# Altium schematic symbol library WE-DD.SchLib: 73 symbols (part 2 of 2)
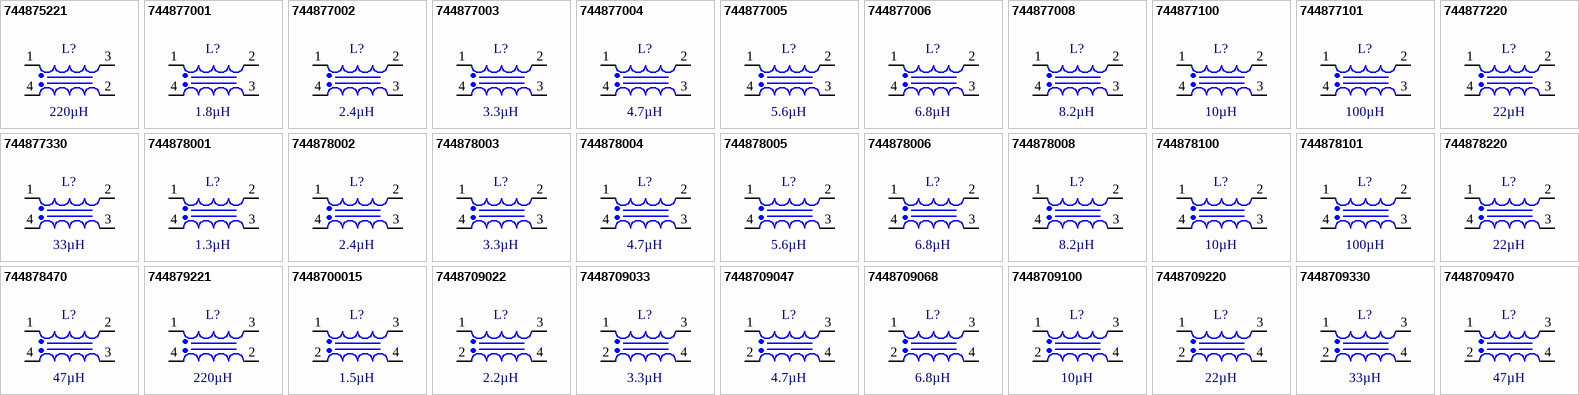
[diagram p2: symbols 744875221 to 7448709470]

## 744877100
designator L?, comment 10µH
WE-DD SMT Shielded Coupled Inductor, size 7345, 1:1, 10µH, 1.1A, 120mΩ; Manufacturer Part Number: 744877100; Manufacturer: Wurth Elektronik; Case/Size Code: 7345; DC Resistance 1: 110mΩ; Rated Voltage: 80V; Saturation Current: 2.8A; Self Resonant Frequency: 27MHz; Type: Straight; Category: Power Inductors; Match Code: WE-DD; ComponentLink1Description: Website Link; ComponentLink1URL: https://www.we-online.com/redexpert/article/744877100?ad; ComponentLink2Description: Datasheet Link; ComponentLink2URL: https://www.we-online.com/redexpert/spec/744877100?ad; Mount: Surface Mount; Min Operating Temperature: -40°C; Max Operating Temperature: 125°C; Packaging: Tape and Reel; Length: 7.3mm; Width: 7.3mm; Height: 4.8mm; DC Resistance 2: 110mΩ; DC Resistance Max 1: 120mΩ; DC Resistance Max 2: 120mΩ; Inductance 1: 10µH; Inductance 2: 10µH; Rated Current 1: 1.1A; Rated Current 2: 1.1A; Turns Ratio: 1:1
footprint WE-DD_7345
simulation model 7345_744877100_10u
pins: 1, 2, 3, 4

## 744877101
designator L?, comment 100µH
WE-DD SMT Shielded Coupled Inductor, size 7345, 1:1, 100µH, 0.65A, 1300mΩ; Manufacturer Part Number: 744877101; Manufacturer: Wurth Elektronik; Case/Size Code: 7345; DC Resistance 1: 1029mΩ; Rated Voltage: 80V; Saturation Current: 0.9A; Self Resonant Frequency: 4MHz; Type: Straight; Category: Power Inductors; Match Code: WE-DD; ComponentLink1Description: Website Link; ComponentLink1URL: https://www.we-online.com/redexpert/article/744877101?ad; ComponentLink2Description: Datasheet Link; ComponentLink2URL: https://www.we-online.com/redexpert/spec/744877101?ad; Mount: Surface Mount; Min Operating Temperature: -40°C; Max Operating Temperature: 125°C; Packaging: Tape and Reel; Length: 7.3mm; Width: 7.3mm; Height: 4.8mm; DC Resistance 2: 1029mΩ; DC Resistance Max 1: 1300mΩ; DC Resistance Max 2: 1300mΩ; Inductance 1: 100µH; Inductance 2: 100µH; Rated Current 1: 0.65A; Rated Current 2: 0.65A; Turns Ratio: 1:1
footprint WE-DD_7345
simulation model 7345_744877101_100u
pins: 1, 2, 3, 4

## 744877220
designator L?, comment 22µH
WE-DD SMT Shielded Coupled Inductor, size 7345, 1:1, 22µH, 0.8A, 260mΩ; Manufacturer Part Number: 744877220; Manufacturer: Wurth Elektronik; Case/Size Code: 7345; DC Resistance 1: 215mΩ; Rated Voltage: 80V; Saturation Current: 1.8A; Self Resonant Frequency: 16MHz; Type: Straight; Category: Power Inductors; Match Code: WE-DD; ComponentLink1Description: Website Link; ComponentLink1URL: https://www.we-online.com/redexpert/article/744877220?ad; ComponentLink2Description: Datasheet Link; ComponentLink2URL: https://www.we-online.com/redexpert/spec/744877220?ad; Mount: Surface Mount; Min Operating Temperature: -40°C; Max Operating Temperature: 125°C; Packaging: Tape and Reel; Length: 7.3mm; Width: 7.3mm; Height: 4.8mm; DC Resistance 2: 215mΩ; DC Resistance Max 1: 260mΩ; DC Resistance Max 2: 260mΩ; Inductance 1: 22µH; Inductance 2: 22µH; Rated Current 1: 0.8A; Rated Current 2: 0.8A; Turns Ratio: 1:1
footprint WE-DD_7345
simulation model 7345_744877220_22u
pins: 1, 2, 3, 4

## 744877330
designator L?, comment 33µH
WE-DD SMT Shielded Coupled Inductor, size 7345, 1:1, 33µH, 0.7A, 500mΩ; Manufacturer Part Number: 744877330; Manufacturer: Wurth Elektronik; Case/Size Code: 7345; DC Resistance 1: 400mΩ; Rated Voltage: 80V; Saturation Current: 1.5A; Self Resonant Frequency: 8MHz; Type: Straight; Category: Power Inductors; Match Code: WE-DD; ComponentLink1Description: Website Link; ComponentLink1URL: https://www.we-online.com/redexpert/article/744877330?ad; ComponentLink2Description: Datasheet Link; ComponentLink2URL: https://www.we-online.com/redexpert/spec/744877330?ad; Mount: Surface Mount; Min Operating Temperature: -40°C; Max Operating Temperature: 125°C; Packaging: Tape and Reel; Length: 7.3mm; Width: 7.3mm; Height: 4.8mm; DC Resistance 2: 400mΩ; DC Resistance Max 1: 500mΩ; DC Resistance Max 2: 500mΩ; Inductance 1: 33µH; Inductance 2: 33µH; Rated Current 1: 0.7A; Rated Current 2: 0.7A; Turns Ratio: 1:1
footprint WE-DD_7345
simulation model 7345_744877330_33u
pins: 1, 2, 3, 4

## 744878001
designator L?, comment 1.3µH
WE-DD SMT Shielded Coupled Inductor, size 7332, 1:1, 1.3µH, 4.4A, 35mΩ; Manufacturer Part Number: 744878001; Manufacturer: Wurth Elektronik; Case/Size Code: 7332; DC Resistance 1: 27mΩ; Rated Voltage: 80V; Saturation Current: 6.3A; Self Resonant Frequency: 60MHz; Type: Straight; Category: Power Inductors; Match Code: WE-DD; ComponentLink1Description: Website Link; ComponentLink1URL: https://www.we-online.com/redexpert/article/744878001?ad; ComponentLink2Description: Datasheet Link; ComponentLink2URL: https://www.we-online.com/redexpert/spec/744878001?ad; Mount: Surface Mount; Min Operating Temperature: -40°C; Max Operating Temperature: 125°C; Packaging: Tape and Reel; Length: 7.3mm; Width: 7.3mm; Height: 4mm; DC Resistance 2: 27mΩ; DC Resistance Max 1: 35mΩ; DC Resistance Max 2: 35mΩ; Inductance 1: 1.3µH; Inductance 2: 1.3µH; Rated Current 1: 4.4A; Rated Current 2: 4.4A; Turns Ratio: 1:1
footprint WE-DD_7332
simulation model 7332_744878001_1.3u
pins: 1, 2, 3, 4

## 744878002
designator L?, comment 2.4µH
WE-DD SMT Shielded Coupled Inductor, size 7332, 1:1, 2.4µH, 3.6A, 52mΩ; Manufacturer Part Number: 744878002; Manufacturer: Wurth Elektronik; Case/Size Code: 7332; DC Resistance 1: 42mΩ; Rated Voltage: 80V; Saturation Current: 4.8A; Self Resonant Frequency: 53MHz; Type: Straight; Category: Power Inductors; Match Code: WE-DD; ComponentLink1Description: Website Link; ComponentLink1URL: https://www.we-online.com/redexpert/article/744878002?ad; ComponentLink2Description: Datasheet Link; ComponentLink2URL: https://www.we-online.com/redexpert/spec/744878002?ad; Mount: Surface Mount; Min Operating Temperature: -40°C; Max Operating Temperature: 125°C; Packaging: Tape and Reel; Length: 7.3mm; Width: 7.3mm; Height: 4mm; DC Resistance 2: 42mΩ; DC Resistance Max 1: 52mΩ; DC Resistance Max 2: 52mΩ; Inductance 1: 2.4µH; Inductance 2: 2.4µH; Rated Current 1: 3.6A; Rated Current 2: 3.6A; Turns Ratio: 1:1
footprint WE-DD_7332
simulation model 7332_744878002_2.4u
pins: 1, 2, 3, 4

## 744878003
designator L?, comment 3.3µH
WE-DD SMT Shielded Coupled Inductor, size 7332, 1:1, 3.3µH, 3.3A, 64mΩ; Manufacturer Part Number: 744878003; Manufacturer: Wurth Elektronik; Case/Size Code: 7332; DC Resistance 1: 52mΩ; Rated Voltage: 80V; Saturation Current: 4A; Self Resonant Frequency: 49MHz; Type: Straight; Category: Power Inductors; Match Code: WE-DD; ComponentLink1Description: Website Link; ComponentLink1URL: https://www.we-online.com/redexpert/article/744878003?ad; ComponentLink2Description: Datasheet Link; ComponentLink2URL: https://www.we-online.com/redexpert/spec/744878003?ad; Mount: Surface Mount; Min Operating Temperature: -40°C; Max Operating Temperature: 125°C; Packaging: Tape and Reel; Length: 7.3mm; Width: 7.3mm; Height: 4mm; DC Resistance 2: 52mΩ; DC Resistance Max 1: 64mΩ; DC Resistance Max 2: 64mΩ; Inductance 1: 3.3µH; Inductance 2: 3.3µH; Rated Current 1: 3.3A; Rated Current 2: 3.3A; Turns Ratio: 1:1
footprint WE-DD_7332
simulation model 7332_744878003_3.3u
pins: 1, 2, 3, 4

## 744878004
designator L?, comment 4.7µH
WE-DD SMT Shielded Coupled Inductor, size 7332, 1:1, 4.7µH, 1.3A, 75mΩ; Manufacturer Part Number: 744878004; Manufacturer: Wurth Elektronik; Case/Size Code: 7332; DC Resistance 1: 65mΩ; Rated Voltage: 80V; Saturation Current: 3A; Self Resonant Frequency: 46MHz; Type: Straight; Category: Power Inductors; Match Code: WE-DD; ComponentLink1Description: Website Link; ComponentLink1URL: https://www.we-online.com/redexpert/article/744878004?ad; ComponentLink2Description: Datasheet Link; ComponentLink2URL: https://www.we-online.com/redexpert/spec/744878004?ad; Mount: Surface Mount; Min Operating Temperature: -40°C; Max Operating Temperature: 125°C; Packaging: Tape and Reel; Length: 7.3mm; Width: 7.3mm; Height: 4mm; DC Resistance 2: 65mΩ; DC Resistance Max 1: 75mΩ; DC Resistance Max 2: 75mΩ; Inductance 1: 4.7µH; Inductance 2: 4.7µH; Rated Current 1: 1.3A; Rated Current 2: 1.3A; Turns Ratio: 1:1
footprint WE-DD_7332
simulation model 7332_744878004_4.7u
pins: 1, 2, 3, 4

## 744878005
designator L?, comment 5.6µH
WE-DD SMT Shielded Coupled Inductor, size 7332, 1:1, 5.6µH, 1.5A, 120mΩ; Manufacturer Part Number: 744878005; Manufacturer: Wurth Elektronik; Case/Size Code: 7332; DC Resistance 1: 95mΩ; Rated Voltage: 80V; Saturation Current: 3A; Self Resonant Frequency: 26MHz; Type: Straight; Category: Power Inductors; Match Code: WE-DD; ComponentLink1Description: Website Link; ComponentLink1URL: https://www.we-online.com/redexpert/article/744878005?ad; ComponentLink2Description: Datasheet Link; ComponentLink2URL: https://www.we-online.com/redexpert/spec/744878005?ad; Mount: Surface Mount; Min Operating Temperature: -40°C; Max Operating Temperature: 125°C; Packaging: Tape and Reel; Length: 7.3mm; Width: 7.3mm; Height: 4mm; DC Resistance 2: 95mΩ; DC Resistance Max 1: 120mΩ; DC Resistance Max 2: 120mΩ; Inductance 1: 5.6µH; Inductance 2: 5.6µH; Rated Current 1: 1.5A; Rated Current 2: 1.5A; Turns Ratio: 1:1
footprint WE-DD_7332
simulation model 7332_744878005_5.6u
pins: 1, 2, 3, 4

## 744878006
designator L?, comment 6.8µH
WE-DD SMT Shielded Coupled Inductor, size 7332, 1:1, 6.8µH, 1.4A, 135mΩ; Manufacturer Part Number: 744878006; Manufacturer: Wurth Elektronik; Case/Size Code: 7332; DC Resistance 1: 110mΩ; Rated Voltage: 80V; Saturation Current: 2.8A; Self Resonant Frequency: 25MHz; Type: Straight; Category: Power Inductors; Match Code: WE-DD; ComponentLink1Description: Website Link; ComponentLink1URL: https://www.we-online.com/redexpert/article/744878006?ad; ComponentLink2Description: Datasheet Link; ComponentLink2URL: https://www.we-online.com/redexpert/spec/744878006?ad; Mount: Surface Mount; Min Operating Temperature: -40°C; Max Operating Temperature: 125°C; Packaging: Tape and Reel; Length: 7.3mm; Width: 7.3mm; Height: 4mm; DC Resistance 2: 110mΩ; DC Resistance Max 1: 135mΩ; DC Resistance Max 2: 135mΩ; Inductance 1: 6.8µH; Inductance 2: 6.8µH; Rated Current 1: 1.4A; Rated Current 2: 1.4A; Turns Ratio: 1:1
footprint WE-DD_7332
simulation model 7332_744878006_6.8u
pins: 1, 2, 3, 4

## 744878008
designator L?, comment 8.2µH
WE-DD SMT Shielded Coupled Inductor, size 7332, 1:1, 8.2µH, 1.3A, 140mΩ; Manufacturer Part Number: 744878008; Manufacturer: Wurth Elektronik; Case/Size Code: 7332; DC Resistance 1: 115mΩ; Rated Voltage: 80V; Saturation Current: 2.7A; Self Resonant Frequency: 22MHz; Type: Straight; Category: Power Inductors; Match Code: WE-DD; ComponentLink1Description: Website Link; ComponentLink1URL: https://www.we-online.com/redexpert/article/744878008?ad; ComponentLink2Description: Datasheet Link; ComponentLink2URL: https://www.we-online.com/redexpert/spec/744878008?ad; Mount: Surface Mount; Min Operating Temperature: -40°C; Max Operating Temperature: 125°C; Packaging: Tape and Reel; Length: 7.3mm; Width: 7.3mm; Height: 4mm; DC Resistance 2: 115mΩ; DC Resistance Max 1: 140mΩ; DC Resistance Max 2: 140mΩ; Inductance 1: 8.2µH; Inductance 2: 8.2µH; Rated Current 1: 1.3A; Rated Current 2: 1.3A; Turns Ratio: 1:1
footprint WE-DD_7332
simulation model 7332_744878008_8.2u
pins: 1, 2, 3, 4

## 744878100
designator L?, comment 10µH
WE-DD SMT Shielded Coupled Inductor, size 7332, 1:1, 10µH, 1A, 150mΩ; Manufacturer Part Number: 744878100; Manufacturer: Wurth Elektronik; Case/Size Code: 7332; DC Resistance 1: 125mΩ; Rated Voltage: 80V; Saturation Current: 2A; Self Resonant Frequency: 30MHz; Type: Straight; Category: Power Inductors; Match Code: WE-DD; ComponentLink1Description: Website Link; ComponentLink1URL: https://www.we-online.com/redexpert/article/744878100?ad; ComponentLink2Description: Datasheet Link; ComponentLink2URL: https://www.we-online.com/redexpert/spec/744878100?ad; Mount: Surface Mount; Min Operating Temperature: -40°C; Max Operating Temperature: 125°C; Packaging: Tape and Reel; Length: 7.3mm; Width: 7.3mm; Height: 4mm; DC Resistance 2: 125mΩ; DC Resistance Max 1: 150mΩ; DC Resistance Max 2: 150mΩ; Inductance 1: 10µH; Inductance 2: 10µH; Rated Current 1: 1A; Rated Current 2: 1A; Turns Ratio: 1:1
footprint WE-DD_7332
simulation model 7332_744878100_10u
pins: 1, 2, 3, 4

## 744878101
designator L?, comment 100µH
WE-DD SMT Shielded Coupled Inductor, size 7332, 1:1, 100µH, 0.3A, 1730mΩ; Manufacturer Part Number: 744878101; Manufacturer: Wurth Elektronik; Case/Size Code: 7332; DC Resistance 1: 1400mΩ; Rated Voltage: 80V; Saturation Current: 0.7A; Self Resonant Frequency: 4MHz; Type: Straight; Category: Power Inductors; Match Code: WE-DD; ComponentLink1Description: Website Link; ComponentLink1URL: https://www.we-online.com/redexpert/article/744878101?ad; ComponentLink2Description: Datasheet Link; ComponentLink2URL: https://www.we-online.com/redexpert/spec/744878101?ad; Mount: Surface Mount; Min Operating Temperature: -40°C; Max Operating Temperature: 125°C; Packaging: Tape and Reel; Length: 7.3mm; Width: 7.3mm; Height: 4mm; DC Resistance 2: 1400mΩ; DC Resistance Max 1: 1730mΩ; DC Resistance Max 2: 1730mΩ; Inductance 1: 100µH; Inductance 2: 100µH; Rated Current 1: 0.3A; Rated Current 2: 0.3A; Turns Ratio: 1:1
footprint WE-DD_7332
simulation model 7332_744878101_100u
pins: 1, 2, 3, 4

## 744878220
designator L?, comment 22µH
WE-DD SMT Shielded Coupled Inductor, size 7332, 1:1, 22µH, 0.7A, 300mΩ; Manufacturer Part Number: 744878220; Manufacturer: Wurth Elektronik; Case/Size Code: 7332; DC Resistance 1: 245mΩ; Rated Voltage: 80V; Saturation Current: 1.5A; Self Resonant Frequency: 20MHz; Type: Straight; Category: Power Inductors; Match Code: WE-DD; ComponentLink1Description: Website Link; ComponentLink1URL: https://www.we-online.com/redexpert/article/744878220?ad; ComponentLink2Description: Datasheet Link; ComponentLink2URL: https://www.we-online.com/redexpert/spec/744878220?ad; Mount: Surface Mount; Min Operating Temperature: -40°C; Max Operating Temperature: 125°C; Packaging: Tape and Reel; Length: 7.3mm; Width: 7.3mm; Height: 4mm; DC Resistance 2: 245mΩ; DC Resistance Max 1: 300mΩ; DC Resistance Max 2: 300mΩ; Inductance 1: 22µH; Inductance 2: 22µH; Rated Current 1: 0.7A; Rated Current 2: 0.7A; Turns Ratio: 1:1
footprint WE-DD_7332
simulation model 7332_744878220_22u
pins: 1, 2, 3, 4

## 744878470
designator L?, comment 47µH
WE-DD SMT Shielded Coupled Inductor, size 7332, 1:1, 47µH, 0.9A, 750mΩ; Manufacturer Part Number: 744878470; Manufacturer: Wurth Elektronik; Case/Size Code: 7332; DC Resistance 1: 600mΩ; Rated Voltage: 80V; Saturation Current: 1A; Self Resonant Frequency: 8MHz; Type: Straight; Category: Power Inductors; Match Code: WE-DD; ComponentLink1Description: Website Link; ComponentLink1URL: https://www.we-online.com/redexpert/article/744878470?ad; ComponentLink2Description: Datasheet Link; ComponentLink2URL: https://www.we-online.com/redexpert/spec/744878470?ad; Mount: Surface Mount; Min Operating Temperature: -40°C; Max Operating Temperature: 125°C; Packaging: Tape and Reel; Length: 7.3mm; Width: 7.3mm; Height: 4mm; DC Resistance 2: 600mΩ; DC Resistance Max 1: 750mΩ; DC Resistance Max 2: 750mΩ; Inductance 1: 47µH; Inductance 2: 47µH; Rated Current 1: 0.9A; Rated Current 2: 0.9A; Turns Ratio: 1:1
footprint WE-DD_7332
simulation model 7332_744878470_47u
pins: 1, 2, 3, 4

## 744879221
designator L?, comment 220µH
WE-DD SMT Shielded Coupled Inductor, size 7355, 1:1, 220µH, 0.44A, 2300mΩ; Manufacturer Part Number: 744879221; Manufacturer: Wurth Elektronik; Case/Size Code: 7355; DC Resistance 1: 1940mΩ; Rated Voltage: 80V; Saturation Current: 0.7A; Self Resonant Frequency: 3.2MHz; Type: Crossed; Category: Power Inductors; Match Code: WE-DD; ComponentLink1Description: Website Link; ComponentLink1URL: https://www.we-online.com/redexpert/article/744879221?ad; ComponentLink2Description: Datasheet Link; ComponentLink2URL: https://www.we-online.com/redexpert/spec/744879221?ad; Mount: Surface Mount; Min Operating Temperature: -40°C; Max Operating Temperature: 125°C; Packaging: Tape and Reel; Length: 7.3mm; Width: 7.3mm; Height: 5.8mm; DC Resistance 2: 1940mΩ; DC Resistance Max 1: 2300mΩ; DC Resistance Max 2: 2300mΩ; Inductance 1: 220µH; Inductance 2: 220µH; Rated Current 1: 0.44A; Rated Current 2: 0.44A; Turns Ratio: 1:1
footprint WE-DD_7355
pins: 1, 2, 3, 4

## 7448700015
designator L?, comment 1.5µH
WE-DD SMT Shielded Coupled Inductor, size 1280, 1:1, 1.5µH, 8.6A, 16mΩ; Manufacturer Part Number: 7448700015; Manufacturer: Wurth Elektronik; Case/Size Code: 1280; DC Resistance 1: 12mΩ; Rated Voltage: 80V; Saturation Current: 17.5A; Self Resonant Frequency: 60MHz; Type: Crossed; Category: Power Inductors; Match Code: WE-DD; ComponentLink1Description: Website Link; ComponentLink1URL: https://www.we-online.com/redexpert/article/7448700015?ad; ComponentLink2Description: Datasheet Link; ComponentLink2URL: https://www.we-online.com/redexpert/spec/7448700015?ad; Mount: Surface Mount; Min Operating Temperature: -40°C; Max Operating Temperature: 125°C; Packaging: Tape and Reel; Length: 12.5mm; Width: 12.5mm; Height: 8.5mm; DC Resistance 2: 12mΩ; DC Resistance Max 1: 16mΩ; DC Resistance Max 2: 16mΩ; Inductance 1: 1.5µH; Inductance 2: 1.5µH; Rated Current 1: 8.6A; Rated Current 2: 8.6A; Turns Ratio: 1:1
footprint WE-DD_1280
simulation model 1280_7448700015_1.5u
pins: 1, 2, 3, 4

## 7448709022
designator L?, comment 2.2µH
WE-DD SMT Shielded Coupled Inductor, size 1210, 1:1, 2.2µH, 4.1A, 17mΩ; Manufacturer Part Number: 7448709022; Manufacturer: Wurth Elektronik; Case/Size Code: 1210; DC Resistance 1: 15mΩ; Rated Voltage: 80V; Saturation Current: 19A; Self Resonant Frequency: 45MHz; Type: Crossed; Category: Power Inductors; Match Code: WE-DD; ComponentLink1Description: Website Link; ComponentLink1URL: https://www.we-online.com/redexpert/article/7448709022?ad; ComponentLink2Description: Datasheet Link; ComponentLink2URL: https://www.we-online.com/redexpert/spec/7448709022?ad; Mount: Surface Mount; Min Operating Temperature: -40°C; Max Operating Temperature: 125°C; Packaging: Tape and Reel; Length: 12.5mm; Width: 12.5mm; Height: 10.5mm; DC Resistance 2: 15mΩ; DC Resistance Max 1: 17mΩ; DC Resistance Max 2: 17mΩ; Inductance 1: 2.2µH; Inductance 2: 2.2µH; Rated Current 1: 4.1A; Rated Current 2: 4.1A; Turns Ratio: 1:1
footprint WE-DD_1210
simulation model 1210_7448709022_2.2u
pins: 1, 2, 3, 4

## 7448709033
designator L?, comment 3.3µH
WE-DD SMT Shielded Coupled Inductor, size 1210, 1:1, 3.3µH, 3.7A, 20mΩ; Manufacturer Part Number: 7448709033; Manufacturer: Wurth Elektronik; Case/Size Code: 1210; DC Resistance 1: 17mΩ; Rated Voltage: 80V; Saturation Current: 15.5A; Self Resonant Frequency: 35MHz; Type: Crossed; Category: Power Inductors; Match Code: WE-DD; ComponentLink1Description: Website Link; ComponentLink1URL: https://www.we-online.com/redexpert/article/7448709033?ad; ComponentLink2Description: Datasheet Link; ComponentLink2URL: https://www.we-online.com/redexpert/spec/7448709033?ad; Mount: Surface Mount; Min Operating Temperature: -40°C; Max Operating Temperature: 125°C; Packaging: Tape and Reel; Length: 12.5mm; Width: 12.5mm; Height: 10.5mm; DC Resistance 2: 17mΩ; DC Resistance Max 1: 20mΩ; DC Resistance Max 2: 20mΩ; Inductance 1: 3.3µH; Inductance 2: 3.3µH; Rated Current 1: 3.7A; Rated Current 2: 3.7A; Turns Ratio: 1:1
footprint WE-DD_1210
simulation model 1210_7448709033_3.3u
pins: 1, 2, 3, 4

## 7448709047
designator L?, comment 4.7µH
WE-DD SMT Shielded Coupled Inductor, size 1210, 1:1, 4.7µH, 3.6A, 23mΩ; Manufacturer Part Number: 7448709047; Manufacturer: Wurth Elektronik; Case/Size Code: 1210; DC Resistance 1: 19mΩ; Rated Voltage: 80V; Saturation Current: 13A; Self Resonant Frequency: 30MHz; Type: Crossed; Category: Power Inductors; Match Code: WE-DD; ComponentLink1Description: Website Link; ComponentLink1URL: https://www.we-online.com/redexpert/article/7448709047?ad; ComponentLink2Description: Datasheet Link; ComponentLink2URL: https://www.we-online.com/redexpert/spec/7448709047?ad; Mount: Surface Mount; Min Operating Temperature: -40°C; Max Operating Temperature: 125°C; Packaging: Tape and Reel; Length: 12.5mm; Width: 12.5mm; Height: 10.5mm; DC Resistance 2: 19mΩ; DC Resistance Max 1: 23mΩ; DC Resistance Max 2: 23mΩ; Inductance 1: 4.7µH; Inductance 2: 4.7µH; Rated Current 1: 3.6A; Rated Current 2: 3.6A; Turns Ratio: 1:1
footprint WE-DD_1210
simulation model 1210_7448709047_4.7u
pins: 1, 2, 3, 4

## 7448709068
designator L?, comment 6.8µH
WE-DD SMT Shielded Coupled Inductor, size 1210, 1:1, 6.8µH, 3.3A, 31mΩ; Manufacturer Part Number: 7448709068; Manufacturer: Wurth Elektronik; Case/Size Code: 1210; DC Resistance 1: 26mΩ; Rated Voltage: 80V; Saturation Current: 11.5A; Self Resonant Frequency: 23MHz; Type: Crossed; Category: Power Inductors; Match Code: WE-DD; ComponentLink1Description: Website Link; ComponentLink1URL: https://www.we-online.com/redexpert/article/7448709068?ad; ComponentLink2Description: Datasheet Link; ComponentLink2URL: https://www.we-online.com/redexpert/spec/7448709068?ad; Mount: Surface Mount; Min Operating Temperature: -40°C; Max Operating Temperature: 125°C; Packaging: Tape and Reel; Length: 12.5mm; Width: 12.5mm; Height: 10.5mm; DC Resistance 2: 26mΩ; DC Resistance Max 1: 31mΩ; DC Resistance Max 2: 31mΩ; Inductance 1: 6.8µH; Inductance 2: 6.8µH; Rated Current 1: 3.3A; Rated Current 2: 3.3A; Turns Ratio: 1:1
footprint WE-DD_1210
simulation model 1210_7448709068_6.8u
pins: 1, 2, 3, 4

## 7448709100
designator L?, comment 10µH
WE-DD SMT Shielded Coupled Inductor, size 1210, 1:1, 10µH, 3.2A, 40mΩ; Manufacturer Part Number: 7448709100; Manufacturer: Wurth Elektronik; Case/Size Code: 1210; DC Resistance 1: 33mΩ; Rated Voltage: 80V; Saturation Current: 8A; Self Resonant Frequency: 20MHz; Type: Crossed; Category: Power Inductors; Match Code: WE-DD; ComponentLink1Description: Website Link; ComponentLink1URL: https://www.we-online.com/redexpert/article/7448709100?ad; ComponentLink2Description: Datasheet Link; ComponentLink2URL: https://www.we-online.com/redexpert/spec/7448709100?ad; Mount: Surface Mount; Min Operating Temperature: -40°C; Max Operating Temperature: 125°C; Packaging: Tape and Reel; Length: 12.5mm; Width: 12.5mm; Height: 10.5mm; DC Resistance 2: 33mΩ; DC Resistance Max 1: 40mΩ; DC Resistance Max 2: 40mΩ; Inductance 1: 10µH; Inductance 2: 10µH; Rated Current 1: 3.2A; Rated Current 2: 3.2A; Turns Ratio: 1:1
footprint WE-DD_1210
simulation model 1210_7448709100_10u
pins: 1, 2, 3, 4

## 7448709220
designator L?, comment 22µH
WE-DD SMT Shielded Coupled Inductor, size 1210, 1:1, 22µH, 3.5A, 80mΩ; Manufacturer Part Number: 7448709220; Manufacturer: Wurth Elektronik; Case/Size Code: 1210; DC Resistance 1: 64mΩ; Rated Voltage: 80V; Saturation Current: 5A; Self Resonant Frequency: 10MHz; Type: Crossed; Category: Power Inductors; Match Code: WE-DD; ComponentLink1Description: Website Link; ComponentLink1URL: https://www.we-online.com/redexpert/article/7448709220?ad; ComponentLink2Description: Datasheet Link; ComponentLink2URL: https://www.we-online.com/redexpert/spec/7448709220?ad; Mount: Surface Mount; Min Operating Temperature: -40°C; Max Operating Temperature: 125°C; Packaging: Tape and Reel; Length: 12.5mm; Width: 12.5mm; Height: 10.5mm; DC Resistance 2: 64mΩ; DC Resistance Max 1: 80mΩ; DC Resistance Max 2: 80mΩ; Inductance 1: 22µH; Inductance 2: 22µH; Rated Current 1: 3.5A; Rated Current 2: 3.5A; Turns Ratio: 1:1
footprint WE-DD_1210
simulation model 1210_7448709220_22u
pins: 1, 2, 3, 4

## 7448709330
designator L?, comment 33µH
WE-DD SMT Shielded Coupled Inductor, size 1210, 1:1, 33µH, 2A, 100mΩ; Manufacturer Part Number: 7448709330; Manufacturer: Wurth Elektronik; Case/Size Code: 1210; DC Resistance 1: 80mΩ; Rated Voltage: 80V; Saturation Current: 4.4A; Self Resonant Frequency: 6MHz; Type: Crossed; Category: Power Inductors; Match Code: WE-DD; ComponentLink1Description: Website Link; ComponentLink1URL: https://www.we-online.com/redexpert/article/7448709330?ad; ComponentLink2Description: Datasheet Link; ComponentLink2URL: https://www.we-online.com/redexpert/spec/7448709330?ad; Mount: Surface Mount; Min Operating Temperature: -40°C; Max Operating Temperature: 125°C; Packaging: Tape and Reel; Length: 12.5mm; Width: 12.5mm; Height: 10.5mm; DC Resistance 2: 80mΩ; DC Resistance Max 1: 100mΩ; DC Resistance Max 2: 100mΩ; Inductance 1: 33µH; Inductance 2: 33µH; Rated Current 1: 2A; Rated Current 2: 2A; Turns Ratio: 1:1
footprint WE-DD_1210
simulation model 1210_7448709330_33u
pins: 1, 2, 3, 4

## 7448709470
designator L?, comment 47µH
WE-DD SMT Shielded Coupled Inductor, size 1210, 1:1, 47µH, 1.9A, 130mΩ; Manufacturer Part Number: 7448709470; Manufacturer: Wurth Elektronik; Case/Size Code: 1210; DC Resistance 1: 106mΩ; Rated Voltage: 80V; Saturation Current: 3.6A; Self Resonant Frequency: 4MHz; Type: Crossed; Category: Power Inductors; Match Code: WE-DD; ComponentLink1Description: Website Link; ComponentLink1URL: https://www.we-online.com/redexpert/article/7448709470?ad; ComponentLink2Description: Datasheet Link; ComponentLink2URL: https://www.we-online.com/redexpert/spec/7448709470?ad; Mount: Surface Mount; Min Operating Temperature: -40°C; Max Operating Temperature: 125°C; Packaging: Tape and Reel; Length: 12.5mm; Width: 12.5mm; Height: 10.5mm; DC Resistance 2: 106mΩ; DC Resistance Max 1: 130mΩ; DC Resistance Max 2: 130mΩ; Inductance 1: 47µH; Inductance 2: 47µH; Rated Current 1: 1.9A; Rated Current 2: 1.9A; Turns Ratio: 1:1
footprint WE-DD_1210
simulation model 1210_7448709470_47u
pins: 1, 2, 3, 4